# Altium schematic symbol library LT6654AHS6-3.3TRMPBF.SchLib: 1 symbol
Pins are listed as number, name and electrical type; pins without a type are passive.

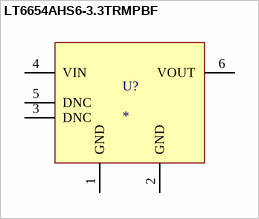
[diagram p0: symbol LT6654AHS6-3.3TRMPBF]

## LT6654AHS6-3.3TRMPBF
designator U?
Precision Wide Supply High Output Drive Low Noise Reference; MF: Analog Devices; MP: LT6654AHS6-3.3#TRMPBF; SnapEDA_Link: https://www.snapeda.com/parts/LT6654AHS6-3.3%23TRMPBF/Analog+Devices/view-part/?ref=snap; Package: SOT-6 Analog Devices; Value: *; Check_prices: https://www.snapeda.com/parts/LT6654AHS6-3.3%23TRMPBF/Analog+Devices/view-part/?ref=eda
footprint SOT95P280X100-6N
pins: 1 GND, 2 GND, 3 DNC, 4 VIN (power), 5 DNC, 6 VOUT (power)